# Altium schematic symbol library Capacitor.SchLib: 19 symbols
Pins are listed as number, name and electrical type; pins without a type are passive.

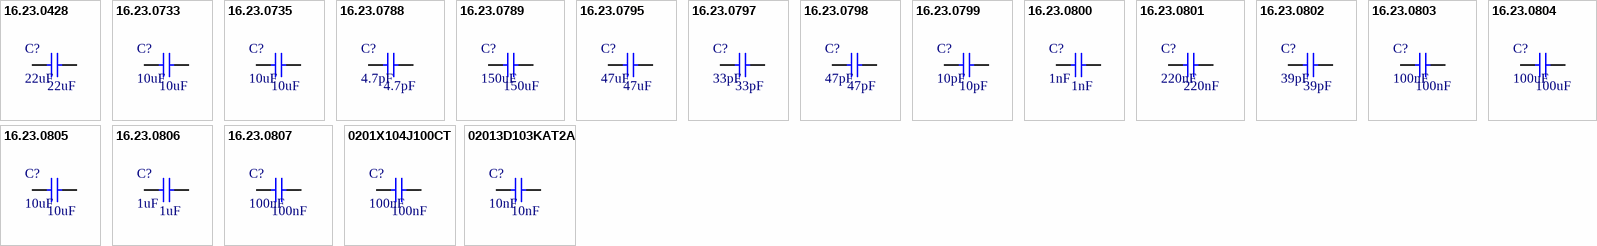
[diagram p0: symbols 16.23.0428 to 02013D103KAT2A]

## 16.23.0428
designator C?, comment 22uF
CAPACITOR CERAMICO MULTICAMADAS 22uF 16V X5R 20% SMD 0805; Category: Multilayer Ceramic Capacitors; Price: 1= 10= 100= 1000= (USD); Library Ref: Capacitor; Package / Case: 0805 (2012 mm); Size / Dimension: L x  W x  H; Tolerance: 20%; Voltage - Rated: 16V; ESR: -; Dieletric: X5R; ComponentLink1Description: Datasheet; ComponentLink2Description: Mouser Link; Value: 22uF
footprint C0805
pins: 1, 2

## 16.23.0733
designator C?, comment 10uF
CAPACITOR CERAMICO MULTICAMADAS 10uF 25V X5R 20% SMD 0603; Category: Multilayer Ceramic Capacitors; Price: 1= 10= 100= 1000= (USD); Library Ref: Capacitor; Package / Case: 0603 (1608 mm); Size / Dimension: L x  W x  H; Tolerance: 20%; Voltage - Rated: 25V; ESR: -; Dieletric: X5R; ComponentLink1Description: Datasheet; ComponentLink2Description: Mouser Link; Value: 10uF
footprint C0603
pins: 1, 2

## 16.23.0735
designator C?, comment 10uF
CAPACITOR CERAMICO MULTICAMADAS 10uF 25V X5R 10% SMD 0805; Category: Multilayer Ceramic Capacitors; Price: 1= 10= 100= 1000= (USD); Library Ref: Capacitor; Package / Case: 0805 (2012 mm); Size / Dimension: L x  W x  H; Tolerance: 10%; Voltage - Rated: 25V; ESR: -; Dieletric: X5R; ComponentLink1Description: Datasheet; ComponentLink2Description: Mouser Link; Value: 10uF
footprint C0805
pins: 1, 2

## 16.23.0788
designator C?, comment 4.7pF
CAPACITOR CERAMICO MULTICAMADA 4.7PF 50V C0G/NP0 0402; Category: Multilayer Ceramic Capacitors; Price: 1= 10= 100= 1000= (USD); Library Ref: Capacitor; Package / Case: 0402 (1005 mm); Size / Dimension: L x  W x  H; Tolerance: -; Voltage - Rated: 50V; ESR: -; Dieletric: C0G/NP0; ComponentLink1Description: Datasheet; ComponentLink2Description: Mouser Link; Value: 4.7pF
footprint C0402
pins: 1, 2

## 16.23.0789
designator C?, comment 150uF
CAPACITOR CERAMICO 150uF 20% 6.3V X5R SMD 1206; Category: Ceramic Capacitor; Price: 1= 10= 100= 1000= (USD); Library Ref: Capacitor; Package / Case: 1206 (3216 mm); Size / Dimension: L x  W x  H; Tolerance: 20%; Voltage - Rated: 6.3V; ESR: -; Dieletric: X5R; ComponentLink1Description: Datasheet; ComponentLink2Description: Mouser Link; Value: 150uF
footprint C1206
pins: 1, 2

## 16.23.0795
designator C?, comment 47uF
CAPACITOR CERAMICO 47uF 6.3V X5R 10% SMD 1206; Category: Ceramic Capacitor; Price: 1= 10= 100= 1000= (USD); Library Ref: Capacitor; Package / Case: 1206 (3216 mm); Size / Dimension: L x  W x  H; Tolerance: 10%; Voltage - Rated: 6.3V; ESR: -; Dieletric: X5R; ComponentLink1Description: Datasheet; ComponentLink2Description: Mouser Link; Value: 47uF
footprint C1206
pins: 1, 2

## 16.23.0797
designator C?, comment 33pF
CAPACITOR CERAMICO 33pF 10V 5% C0G SMD 0201; Category: Ceramic Capacitor; Price: 1= 10= 100= 1000= (USD); Library Ref: Capacitor; Package / Case: 0201 (0603 mm); Size / Dimension: L x  W x  H; Tolerance: 5%; Voltage - Rated: 10V; ESR: -; Dieletric: C0G; ComponentLink1Description: Datasheet; ComponentLink2Description: Mouser Link; Value: 33pF
footprint C0201
pins: 1, 2

## 16.23.0798
designator C?, comment 47pF
CAPACITOR CERAMICO 47pF 10V 5% C0G SMD 0201; Category: Ceramic Capacitor; Price: 1= 10= 100= 1000= (USD); Library Ref: Capacitor; Package / Case: 0201 (0603 mm); Size / Dimension: L x  W x  H; Tolerance: 5%; Voltage - Rated: 10V; ESR: -; Dieletric: C0G; ComponentLink1Description: Datasheet; ComponentLink2Description: Mouser Link; Value: 47pF
footprint C0201
pins: 1, 2

## 16.23.0799
designator C?, comment 10pF
CAPACITOR CERAMICO 10pF 25V 5% C0G SMD 0201; Category: Ceramic Capacitor; Price: 1= 10= 100= 1000= (USD); Library Ref: Capacitor; Package / Case: 0201 (0603 mm); Size / Dimension: L x  W x  H; Tolerance: 5%; Voltage - Rated: 25V; ESR: -; Dieletric: C0G; ComponentLink1Description: Datasheet; ComponentLink2Description: Mouser Link; Value: 10pF
footprint C0201
pins: 1, 2

## 16.23.0800
designator C?, comment 1nF
CAPACITOR CERAMICO 1nF 25V 5% X7R SMD 0201; Category: Ceramic Capacitor; Price: 1= 10= 100= 1000= (USD); Library Ref: Capacitor; Package / Case: 0201 (0603 mm); Size / Dimension: L x  W x  H; Tolerance: 5%; Voltage - Rated: 25V; ESR: -; Dieletric: X7R; ComponentLink1Description: Datasheet; ComponentLink2Description: Mouser Link; Value: 1nF
footprint C0201
pins: 1, 2

## 16.23.0801
designator C?, comment 220nF
CAPACITOR CERAMICO 220nF 16V 10% X5R SMD 0201; Category: Ceramic Capacitor; Price: 1= 10= 100= 1000= (USD); Library Ref: Capacitor; Package / Case: 0201 (0603 mm); Size / Dimension: L x  W x  H; Tolerance: 10%; Voltage - Rated: 16V; ESR: -; Dieletric: X5R; ComponentLink1Description: Datasheet; ComponentLink2Description: Mouser Link; Value: 220nF
footprint C0201
pins: 1, 2

## 16.23.0802
designator C?, comment 39pF
CAPACITOR CERAMICO 39pF 100V 5% C0G SMD 0201; Category: Ceramic Capacitor; Price: 1= 10= 100= 1000= (USD); Library Ref: Capacitor; Package / Case: 0201 (0603 mm); Size / Dimension: L x  W x  H; Tolerance: 5%; Voltage - Rated: 100V; ESR: -; Dieletric: C0G; ComponentLink1Description: Datasheet; ComponentLink2Description: Mouser Link; Value: 39pF
footprint C0201
pins: 1, 2

## 16.23.0803
designator C?, comment 100nF
CAPACITOR CERAMICO 100nF 16V 10% X5R SMD 0201; Category: Ceramic Capacitor; Price: 1= 10= 100= 1000= (USD); Library Ref: Capacitor; Package / Case: 0201 (0603 mm); Size / Dimension: L x  W x  H; Tolerance: 10%; Voltage - Rated: 16V; ESR: -; Dieletric: X5R; ComponentLink1Description: Datasheet; ComponentLink2Description: Mouser Link; Value: 100nF
footprint C0201
pins: 1, 2

## 16.23.0804
designator C?, comment 100uF
CAPACITOR CERAMICO 100uF 6.3V 10% X5R SMD 1206; Category: Ceramic Capacitor; Price: 1= 10= 100= 1000= (USD); Library Ref: Capacitor; Package / Case: 1206 (3216 mm); Size / Dimension: L x  W x  H; Tolerance: 10%; Voltage - Rated: 6.3V; ESR: -; Dieletric: X5R; ComponentLink1Description: Datasheet; ComponentLink2Description: Mouser Link; Value: 100uF
footprint C1206
pins: 1, 2

## 16.23.0805
designator C?, comment 10uF
CAPACITOR CERAMICO MULTICAMADAS 10uF 10V X5R 10% SMD 0603; Category: Multilayer Ceramic Capacitors; Price: 1= 10= 100= 1000= (USD); Library Ref: Capacitor; Package / Case: 0603 (1608 mm); Size / Dimension: L x  W x  H; Tolerance: 10%; Voltage - Rated: 10V; ESR: -; Dieletric: X5R; ComponentLink1Description: Datasheet; ComponentLink2Description: Mouser Link; Value: 10uF
footprint C0603
pins: 1, 2

## 16.23.0806
designator C?, comment 1uF
CAPACITOR CERAMICO MULTICAMADAS 1uF 10V X5R 20% SMD 0201; Category: Multilayer Ceramic Capacitors; Price: 1= 10= 100= 1000= (USD); Library Ref: Capacitor; Package / Case: 0201 (0603 mm); Size / Dimension: L x  W x  H; Tolerance: -; Voltage - Rated: 10V; ESR: -; Dieletric: X5R; ComponentLink1Description: Datasheet; ComponentLink2Description: Mouser Link; Value: 1uF
footprint C0201
pins: 1, 2

## 16.23.0807
designator C?, comment 100nF
CAPACITOR CERAMICO MULTICAMADAS 100nF 50V X7R 10% SMD 0402; Category: Multilayer Ceramic Capacitors; Price: 1= 10= 100= 1000= (USD); Library Ref: Capacitor; Package / Case: 0402 (1005 mm); Size / Dimension: L x  W x  H; Tolerance: 10%; Voltage - Rated: 50V; ESR: -; Dieletric: X7R; ComponentLink1Description: Datasheet; ComponentLink2Description: Mouser Link; Value: 100nF
footprint C0402
pins: 1, 2

## 0201X104J100CT
designator C?, comment 100nF
CAPACITOR CERAMICO MULTICAMADAS 100nF 10V 5% X5R SMD 0201; Manufacturer: Walsin; Part Number: 0201X104J100CT; Library Control - Checked Footprint: Yes; Library Control - Last Project that Used: SIBB; Library Control - Person that Checked Footprint: Stéfany; Supplier 1: Mouser; Category: Multilayer Ceramic Capacitors; Price: 1=0.11 10=0.042 100=0.019 1000=0.01 (USD); Library Ref: Capacitor; Operating Temperature: -55 C ~ 85 C; Package / Case: 0201 (0603 mm); Size / Dimension: 0.6 mm L x 0.3 mm W x 0.3 mm H; Tolerance: 5%; Voltage - Rated: 10V; ESR: -; Dieletric: X5R; Library Control - Checked Schematic: Yes; Library Control - Last Update: 14/07/2022 - 17:13; Library Control - Person that Checked Schematic: Stéfany; Library Control - Person that did the Last Update Footprint: Stéfany; Library Control - Person that did the Last Update Schematic: Stéfany; ComponentLink1Description: Datasheet; ComponentLink1URL: https://www.mouser.com/datasheet/2/210/WTC_MLCC_General_Purpose-1534899.pdf; ComponentLink2Description: Mouser Link; ComponentLink2URL: https://www.mouser.com/ProductDetail/Walsin/0201X104J100CT?qs=u16ybLDytRbh6baQ73s%252ByQ%3D%3D; Value: 100nF
footprint C0201
pins: 1, 2

## 02013D103KAT2A
designator C?, comment 10nF
CAPACITOR CERAMICO MULTICAMADAS 10nF 25V 10% X5R SMD 0201; Manufacturer: Kyocera AVX; Part Number: 02013D103KAT2A; Library Control - Checked Footprint: Yes; Library Control - Last Project that Used: SIBB; Library Control - Person that Checked Footprint: Stéfany; Supplier 1: Mouser; Category: Multilayer Ceramic Capacitors; Price: 1=0.10 10=0.038 100=0.017 1000=0.01 (USD); Library Ref: Capacitor; Operating Temperature: -55 C ~ +85 C; Package / Case: 0201 (0603 mm); Size / Dimension: 0.6 mm L x 0.3 mm W x 0.3 mm H; Tolerance: 10%; Voltage - Rated: 25V; ESR: -; Dieletric: X5R; Library Control - Checked Schematic: Yes; Library Control - Last Update: 14/07/2022 - 21:33; Library Control - Person that Checked Schematic: Stéfany; Library Control - Person that did the Last Update Footprint: Stéfany; Library Control - Person that did the Last Update Schematic: Stéfany; ComponentLink1Description: Datasheet; ComponentLink1URL: https://www.mouser.com/datasheet/2/40/AVX_cx5r_776519-1853698.pdf; ComponentLink2Description: Mouser Link; ComponentLink2URL: https://www.mouser.com/ProductDetail/Kyocera-AVX/02013D103KAT2A?qs=%252BdQmOuGyFcGMM%2FJpFHBLEw%3D%3D; Value: 10nF
footprint C0201
pins: 1, 2